# EAGLE library part 6N138 (library steves)
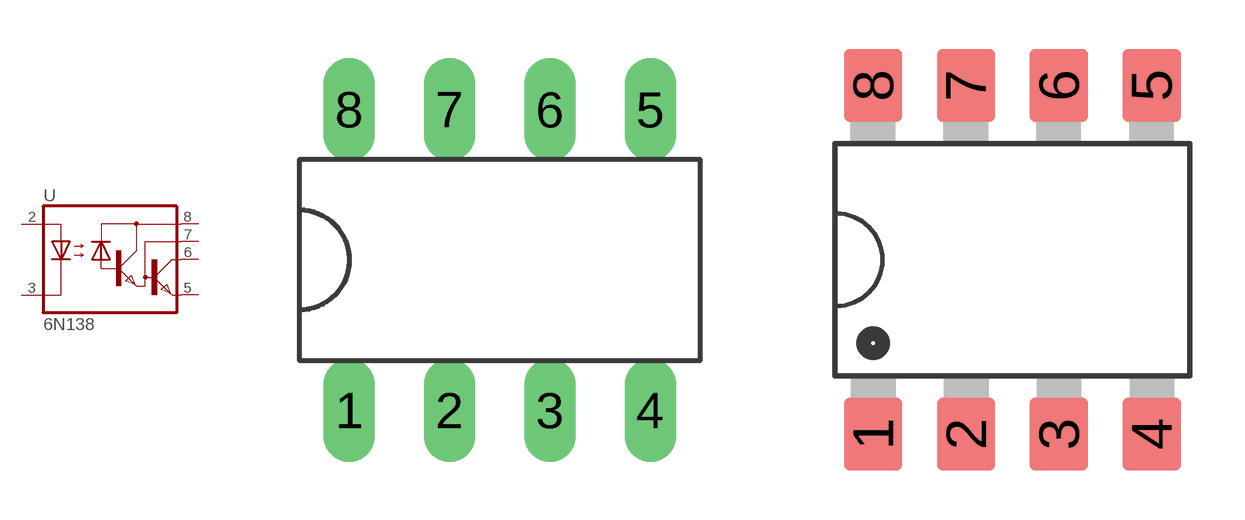
[diagram p13: symbol with the pads of DIL8; footprints DIL8, SMD8]

Designator prefix -

## 6N138D  [DIL8]
2  A  pas
3  K  pas
5  GND  pas
6  VO  pas
7  VB  pas
8  VCC  pas

## 6N138S  [SMD8]
Pads as for DIL8

## Footprint DIL8 (pad centres in mm)
Standard 8-pin DIL pad, 0.3 spacing.
drill 0.8 long: 1 0,0; 2 2.54,0; 3 5.08,0; 4 7.62,0; 5 7.62,7.62; 6 5.08,7.62; 7 2.54,7.62; 8 0,7.62

## Footprint SMD8 (pad centres in mm)
smd 1.6 x 2: 1 -3.81,-4.77; 2 -1.27,-4.77; 3 1.27,-4.77; 4 3.81,-4.77; 5 3.81,4.77; 6 1.27,4.77; 7 -1.27,4.77; 8 -3.81,4.77